# EAGLE library part REFLOW (library railman)
This is a new object for the new Reflow Shield R3 - with extra pins that you may want to use (such as IOref, and duplicated A4/A5)
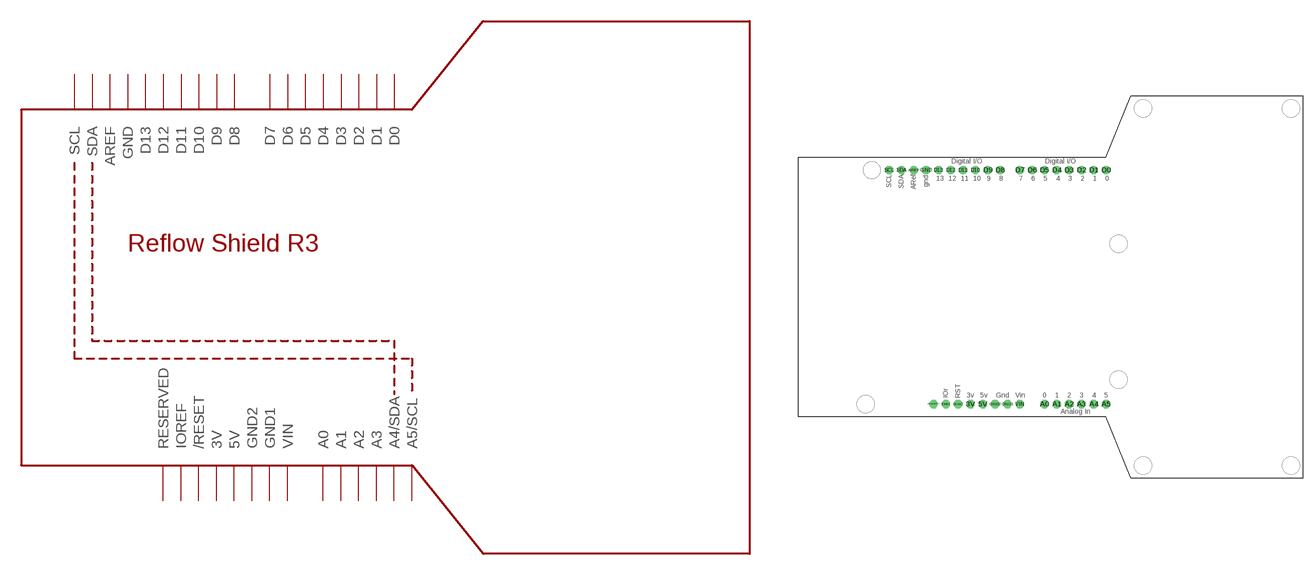
[diagram p0: symbol with the pads of REFLOW; footprint REFLOW]

Designator prefix U

## REFLOWDEMENSION  [REFLOW]
3V  3V  pwr
5V  5V  pwr
A0  A0
A1  A1
A2  A2
A3  A3
A4  A4/SDA
A5  A5/SCL
AREF  AREF
D0  D0
D1  D1
D2  D2
D3  D3
D4  D4
D5  D5
D6  D6
D7  D7
D8  D8
D9  D9
D10  D10
D11  D11
D12  D12
D13  D13
GND  GND  pwr
GND1  GND1  pwr
GND2  GND2  pwr
IOREF  IOREF  out
RESERVED  RESERVED  nc
RESET  /RESET
SCL  SCL
SDA  SDA
VIN  VIN  pwr

## Footprint REFLOW (pad centres in mm)
The new Reflow Shield R3 'classic' adds duplicate I2C pins and an IORef pin.
drill 1 pad 1.676 octagon: 3V 35.56,15.24; 5V 38.1,15.24; A0 50.8,15.24; A1 53.34,15.24; A2 55.88,15.24; A3 58.42,15.24; A4 60.96,15.24; A5 63.5,15.24; AREF 23.876,63.5; D0 63.5,63.5; D1 60.96,63.5; D2 58.42,63.5; D3 55.88,63.5; D4 53.34,63.5; D5 50.8,63.5; D6 48.26,63.5; D7 45.72,63.5; D8 41.656,63.5; D9 39.116,63.5; D10 36.576,63.5; D11 34.036,63.5; D12 31.496,63.5; D13 28.956,63.5; GND 26.416,63.5; GND1 43.18,15.24; GND2 40.64,15.24; IOREF 30.48,15.24; RESERVED 27.94,15.24; RESET 33.02,15.24; SCL 18.796,63.5; SDA 21.336,63.5; VIN 45.72,15.24